# Altium footprint library IDC_100_2x10_RA.PcbLib: 1 footprints
Each footprint in its own frame and in the unit in brackets; x right, y up, seen from the top. Pads: shape width x height; smd on the part's side, far side on the other; paste and mask are expansions set on the pad; w line width, h text height; cw(c..) or ccw(c..) is an arc to the next point about the centre after c.
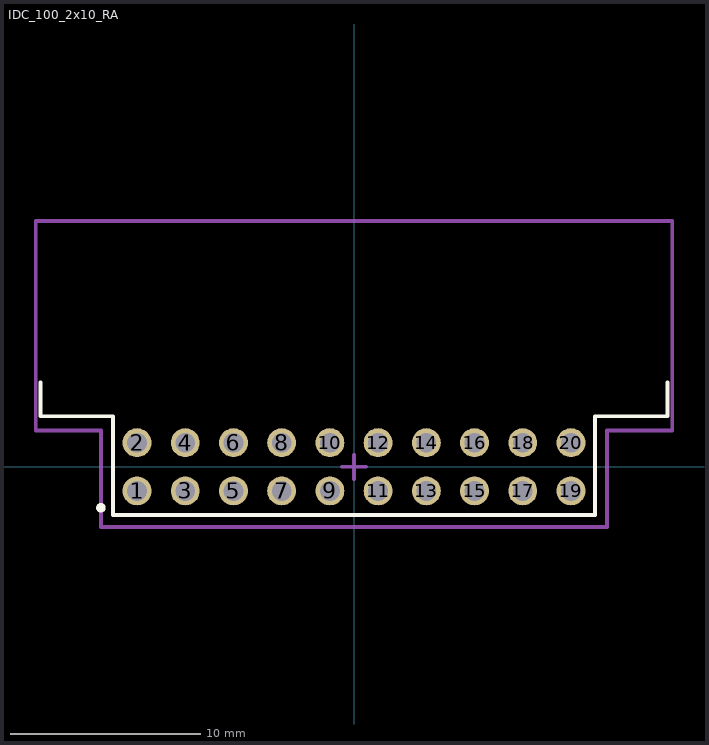
[diagram p0: the footprint, top view; thin cyan lines are the x and y axes]

## IDC_100_2x10_RA [mil]
pads (20):
  round 60 hole 41: 1(-450,-50) 2(-450,50) 3(-350,-50) 4(-350,50) 5(-250,-50) 6(-250,50) 7(-150,-50) 8(-150,50) 9(-50,-50) 10(-50,50) 11(50,-50) 12(50,50) 13(150,-50) 14(150,50) 15(250,-50) 16(250,50) 17(350,-50) 18(350,50) 19(450,-50) 20(450,50)
Top Overlay:
  circle w10: c-525,-85 r5
  lines w7.87: -650,175 -650,105 -500,105 -500,-100 500,-100 500,105 650,105 650,175
Mechanical 15:
  lines w7.87: -25,0 25,0 ; 0,-25 0,25 ; -660,75 -660,510 660,510 660,75 525,75 525,-125 -525,-125 -525,75 -660,75
3D body "75867104lf.stp": height 366.19, standoff -119.66, extent -641.93,-60 641.93,490